# Altium footprint library FullyDigital.PcbLib: 50 footprints (part 2 of 4)
Each footprint in its own frame and in the unit in brackets; x right, y up, seen from the top. Pads: shape width x height; smd on the part's side, far side on the other; paste and mask are expansions set on the pad; w line width, h text height; cw(c..) or ccw(c..) is an arc to the next point about the centre after c.
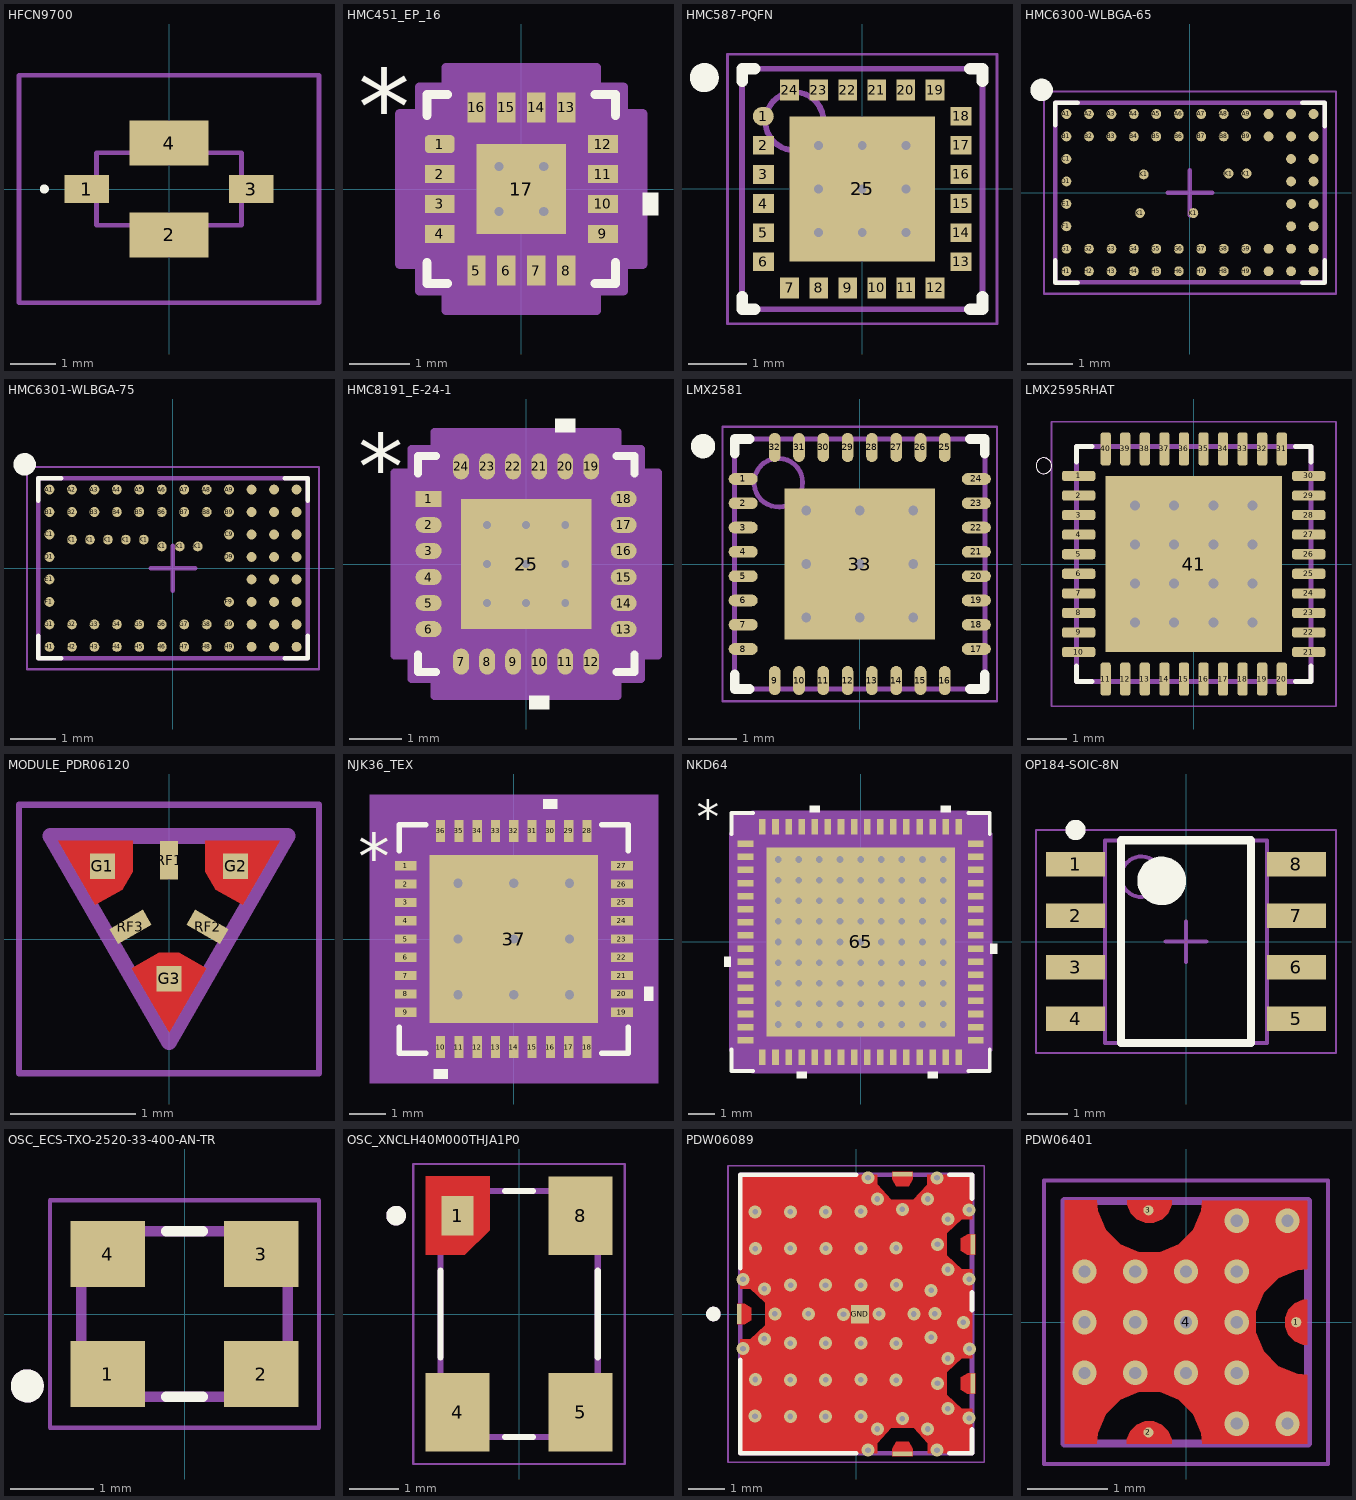
[diagram p1: the footprints below, top view; thin cyan lines are the x and y axes]

## HFCN9700 [mm] "HFCN9700 4PIN"
height 0.95
pads (4):
  rect 0.99x0.61 smd: 1(-1.815,0) 3(1.815,0)
  rect 1.75x0.99 smd: 2(0,-1.015) 4(0,1.015)
Top Overlay:
  lines w0.1: -2.8,0 ccw(c-2.75,0) -2.7,0 ccw(c-2.75,0) -2.8,0
Mechanical 13:
  lines w0.1: -1.6,-0.8 1.6,-0.8 1.6,0.8 -1.6,0.8 -1.6,-0.8
Mechanical 15:
  lines w0.1: -3.31,-2.51 3.31,-2.51 3.31,2.51 -3.31,2.51 -3.31,-2.51
3D body "HFCN-9700+.stp": height 1.14, standoff 0, extent -2.249,-1.411 2.249,1.411

## HMC451_EP_16 [mm] "Gaas PHEMT MMIC MEDIUM  POWER AMPLIFIER, 5 - 20 GHz"
pads (17):
  rrect50% 0.5x0.305 smd mask+0.051: 1(-1.362,0.75)
  rect 0.5x0.305 smd mask+0.051: 2(-1.362,0.25) 3(-1.362,-0.25) 4(-1.362,-0.75) 9(1.362,-0.75) 10(1.362,-0.25) 11(1.362,0.25) 12(1.362,0.75)
  rect 0.305x0.5 smd mask+0.051: 5(-0.75,-1.362) 6(-0.25,-1.362) 7(0.25,-1.362) 8(0.75,-1.362) 13(0.75,1.362) 14(0.25,1.362) 15(-0.25,1.362) 16(-0.75,1.362)
  rect 1.5x1.5 smd paste-0.737 mask+0.051: 17(0,0)
via 0.375,0.375 diameter 0.356 hole 0.152
via -0.375,0.375 diameter 0.356 hole 0.152
via -0.375,-0.375 diameter 0.356 hole 0.152
via 0.375,-0.375 diameter 0.356 hole 0.152
Top Overlay:
  region: 2.03,-0.059 2.284,-0.059 2.284,-0.44 2.03,-0.44
  lines w0.152: -1.577,-1.233 -1.577,-1.577 -1.233,-1.577 ; -1.577,1.233 -1.577,1.577 -1.233,1.577 ; 1.233,-1.577 1.577,-1.577 1.577,-1.233 ; 1.233,1.577 1.577,1.577 1.577,1.233
  text "*" at -2.729,0.746 h1.27
Top Paste:
  region: 0.75,0.75 -0.75,0.75 -0.75,-0.75 0.75,-0.75
Mechanical 13:
  lines w0.025: -1.45,0.18 -0.18,1.45 ; -1.45,-1.45 1.45,-1.45 1.45,1.45 -1.45,1.45 -1.45,-1.45 ; -1.45,-0.9 -1.45,-0.6 -1.45,-0.9 ; -1.45,-0.4 -1.45,-0.1 -1.45,-0.4 ; -1.45,0.1 -1.45,0.4 -1.45,0.1 ; -1.45,0.6 -1.45,0.9 -1.45,0.6 ; -0.9,-1.45 -0.6,-1.45 -0.9,-1.45 ; -0.9,1.45 -0.6,1.45 -0.9,1.45 ; -0.4,-1.45 -0.1,-1.45 -0.4,-1.45 ; -0.4,1.45 -0.1,1.45 -0.4,1.45 ; 0.1,-1.45 0.4,-1.45 0.1,-1.45 ; 0.1,1.45 0.4,1.45 0.1,1.45 ; 0.6,-1.45 0.9,-1.45 0.6,-1.45 ; 0.6,1.45 0.9,1.45 0.6,1.45 ; 1.45,-0.9 1.45,-0.6 1.45,-0.9 ; 1.45,-0.4 1.45,-0.1 1.45,-0.4 ; 1.45,0.1 1.45,0.4 1.45,0.1 ; 1.45,0.6 1.45,0.9 1.45,0.6
  text "*" at -1.259,-0.328 h1.27
Mechanical 15:
  region: -1.258,-1.704 -1.704,-1.704 -1.704,-1.258 -2.03,-1.258 -2.03,1.258 -1.704,1.258 -1.704,1.704 -1.258,1.704 -1.258,2.03 1.258,2.03 1.258,1.704 1.704,1.704 1.704,1.258 2.03,1.258 2.03,-1.258 1.704,-1.258 1.704,-1.704 1.258,-1.704 1.258,-2.03 -1.258,-2.03
  lines w0.152: -2.03,-1.258 -1.704,-1.258 -1.704,-1.704 -1.258,-1.704 -1.258,-2.03 1.258,-2.03 1.258,-1.704 1.704,-1.704 1.704,-1.258 2.03,-1.258 2.03,1.258 1.704,1.258 1.704,1.704 1.258,1.704 1.258,2.03 -1.258,2.03 -1.258,1.704 -1.704,1.704 -1.704,1.258 -2.03,1.258 -2.03,-1.258
3D body: height 0.25, standoff 0, extent 0,0 0.254,0.254

## HMC587-PQFN [mm] "PQFN, 24-Leads, Body 4.00x4.00mm, Pitch 0.50mm, Thermal Pad 2.50x2.50mm, IPC Medium Density"
height 1.2
pads (25):
  oval 0.36x0.32 smd mask+0.013: 1(-1.7,1.25)
  rect 0.36x0.32 smd mask+0.013: 2(-1.7,0.75) 3(-1.7,0.25) 4(-1.7,-0.25) 5(-1.7,-0.75) 6(-1.7,-1.25) 13(1.7,-1.25) 14(1.7,-0.75) 15(1.7,-0.25) 16(1.7,0.25) 17(1.7,0.75) 18(1.7,1.25)
  rect 0.32x0.36 smd mask+0.013: 7(-1.25,-1.7) 8(-0.75,-1.7) 9(-0.25,-1.7) 10(0.25,-1.7) 11(0.75,-1.7) 12(1.25,-1.7) 19(1.25,1.7) 20(0.75,1.7) 21(0.25,1.7) 22(-0.25,1.7) 23(-0.75,1.7) 24(-1.25,1.7)
  rect 2.5x2.5 smd mask+0.025: 25(0,0)
via -0.75,-0.75 diameter 0.305 hole 0.152
via 0,-0.75 diameter 0.305 hole 0.152
via 0.75,-0.75 diameter 0.305 hole 0.152
via 0.75,0.75 diameter 0.305 hole 0.152
via 0,0.75 diameter 0.305 hole 0.152
via -0.75,0.75 diameter 0.305 hole 0.152
via -0.75,0 diameter 0.305 hole 0.152
via 0.75,0 diameter 0.305 hole 0.152
via 0,0 diameter 0.305 hole 0.152
Top Overlay:
  circle w0.25: c-2.715,1.915 r0.125
  lines w0.2: -2.065,-1.85 -2.065,-2.065 -1.85,-2.065 ; -2.065,1.85 -2.065,2.065 -1.85,2.065 ; 1.85,-2.065 2.065,-2.065 2.065,-1.85 ; 1.85,2.065 2.065,2.065 2.065,1.85
Mechanical 13:
  circle w0.1: c-1.165,1.165 r0.5
  lines w0.1: -2.065,-2.065 -2.065,2.065 2.065,2.065 2.065,-2.065 -2.065,-2.065
Mechanical 15:
  lines w0.05: -2.315,-2.315 -2.315,2.315 2.315,2.315 2.315,-2.315 -2.315,-2.315
  lines w0.1: -0.5,0 0.5,0 ; 0,-0.5 0,0.5
3D body: height 1.2, standoff 0, extent -2.065,-2.065 2.065,2.065

## HMC6300-WLBGA-65 [mm] "BGA, 65-Leads, Body 6.00x4.00mmx0.82mm, Pitch 0.50mm"
height 0.82
pads (65):
  round 0.22 smd mask+0.051: A1(-2.75,1.75) A2(-2.25,1.75) A3(-1.75,1.75) A4(-1.25,1.75) A5(-0.75,1.75) A6(-0.25,1.75) A7(0.25,1.75) A8(0.75,1.75) A9(1.25,1.75) A10(1.75,1.75) A11(2.25,1.75) A12(2.75,1.75) B1(-2.75,1.25) B2(-2.25,1.25) B3(-1.75,1.25) B4(-1.25,1.25) B5(-0.75,1.25) B6(-0.25,1.25) B7(0.25,1.25) B8(0.75,1.25) B9(1.25,1.25) B10(1.75,1.25) B11(2.25,1.25) B12(2.75,1.25) C1(-2.75,0.75) C11(2.25,0.75) C12(2.75,0.75) D1(-2.75,0.25) D11(2.25,0.25) D12(2.75,0.25) E1(-2.75,-0.25) E11(2.25,-0.25) E12(2.75,-0.25) F1(-2.75,-0.75) F11(2.25,-0.75) F12(2.75,-0.75) G1(-2.75,-1.25) G2(-2.25,-1.25) G3(-1.75,-1.25) G4(-1.25,-1.25) G5(-0.75,-1.25) G6(-0.25,-1.25) G7(0.25,-1.25) G8(0.75,-1.25) G9(1.25,-1.25) G10(1.75,-1.25) G11(2.25,-1.25) G12(2.75,-1.25) H1(-2.75,-1.75) H2(-2.25,-1.75) H3(-1.75,-1.75) H4(-1.25,-1.75) H5(-0.75,-1.75) H6(-0.25,-1.75) H7(0.25,-1.75) H8(0.75,-1.75) H9(1.25,-1.75) H10(1.75,-1.75) H11(2.25,-1.75) H12(2.75,-1.75) K1(-1.115,-0.455) K1(-1.03,0.406) K1(0.075,-0.455) K1(0.858,0.425) K1(1.258,0.425)
Top Overlay:
  circle w0.25: c-3.302,2.286 r0.125
  lines w0.1: -2.997,-1.504 -2.997,-2.001 -2.497,-2.001 ; -2.997,1.499 -2.997,1.995 -2.497,1.995 ; 2.497,-2.001 2.997,-2.001 2.997,-1.504 ; 2.497,1.995 2.997,1.995 ; 2.997,1.479 2.997,1.976
Mechanical 13:
  lines w0.1: -3,-2 -3,2 3,2 3,-2 -3,-2
Mechanical 15:
  lines w0.05: -3.25,-2.25 -3.25,2.25 3.25,2.25 3.25,-2.25 -3.25,-2.25
  lines w0.1: -0.5,0 0.5,0 ; 0,-0.5 0,0.5
3D body: height 0.82, standoff 0.28, extent -3,-2 3,2

## HMC6301-WLBGA-75 [mm] "BGA, 75-Leads, Body 6.00x4.00mmx0.82mm, Pitch 0.50mm"
height 0.82
pads (75):
  round 0.22 smd mask+0.051: A1(-2.75,1.75) A2(-2.25,1.75) A3(-1.75,1.75) A4(-1.25,1.75) A5(-0.75,1.75) A6(-0.25,1.75) A7(0.25,1.75) A8(0.75,1.75) A9(1.25,1.75) A10(1.75,1.75) A11(2.25,1.75) A12(2.75,1.75) B1(-2.75,1.25) B2(-2.25,1.25) B3(-1.75,1.25) B4(-1.25,1.25) B5(-0.75,1.25) B6(-0.25,1.25) B7(0.25,1.25) B8(0.75,1.25) B9(1.25,1.25) B10(1.75,1.25) B11(2.25,1.25) B12(2.75,1.25) C1(-2.75,0.75) C9(1.25,0.75) C10(1.75,0.75) C11(2.25,0.75) C12(2.75,0.75) D1(-2.75,0.25) D9(1.25,0.25) D10(1.75,0.25) D11(2.25,0.25) D12(2.75,0.25) E1(-2.75,-0.25) E10(1.75,-0.25) E11(2.25,-0.25) E12(2.75,-0.25) F1(-2.75,-0.75) F9(1.25,-0.75) F10(1.75,-0.75) F11(2.25,-0.75) F12(2.75,-0.75) G1(-2.75,-1.25) G2(-2.25,-1.25) G3(-1.75,-1.25) G4(-1.25,-1.25) G5(-0.75,-1.25) G6(-0.25,-1.25) G7(0.25,-1.25) G8(0.75,-1.25) G9(1.25,-1.25) G10(1.75,-1.25) G11(2.25,-1.25) G12(2.75,-1.25) H1(-2.75,-1.75) H2(-2.25,-1.75) H3(-1.75,-1.75) H4(-1.25,-1.75) H5(-0.75,-1.75) H6(-0.25,-1.75) H7(0.25,-1.75) H8(0.75,-1.75) H9(1.25,-1.75) H10(1.75,-1.75) H11(2.25,-1.75) H12(2.75,-1.75) K1(-2.25,0.635) K1(-1.85,0.635) K1(-1.45,0.635) K1(-1.05,0.635) K1(-0.65,0.635) K1(-0.25,0.485) K1(0.15,0.485) K1(0.55,0.485)
Top Overlay:
  circle w0.25: c-3.302,2.311 r0.125
  lines w0.1: -2.997,-1.499 -2.997,-2.007 -2.489,-2.007 ; -2.997,1.499 -2.997,2.007 -2.489,2.007 ; 2.489,-2.007 2.997,-2.007 2.997,-1.499 ; 2.489,2.007 2.997,2.007 2.997,1.499
Mechanical 13:
  lines w0.1: -3,-2 -3,2 3,2 3,-2 -3,-2
Mechanical 15:
  lines w0.05: -3.25,-2.25 -3.25,2.25 3.25,2.25 3.25,-2.25 -3.25,-2.25
  lines w0.1: -0.5,0 0.5,0 ; 0,-0.5 0,0.5
3D body: height 0.82, standoff 0.22, extent -3,-2 3,2

## HMC8191_E-24-1 [mm] "HMC8191_E-24-1"
height 1
pads (25):
  rect 0.5x0.305 smd mask+0.025: 1(-1.872,1.25)
  oval 0.5x0.305 smd mask+0.025: 2(-1.872,0.75) 3(-1.872,0.25) 4(-1.872,-0.25) 5(-1.872,-0.75) 6(-1.872,-1.25) 13(1.872,-1.25) 14(1.872,-0.75) 15(1.872,-0.25) 16(1.872,0.25) 17(1.872,0.75) 18(1.872,1.25)
  oval 0.305x0.5 smd mask+0.025: 7(-1.25,-1.872) 8(-0.75,-1.872) 9(-0.25,-1.872) 10(0.25,-1.872) 11(0.75,-1.872) 12(1.25,-1.872) 19(1.25,1.872) 20(0.75,1.872) 21(0.25,1.872) 22(-0.25,1.872) 23(-0.75,1.872) 24(-1.25,1.872)
  rect 2.5x2.5 smd paste-1.237 mask+0.025: 25(0,0)
via 0.75,0 diameter 0.305 hole 0.152
via 0.75,-0.75 diameter 0.305 hole 0.152
via 0,-0.75 diameter 0.305 hole 0.152
via -0.75,-0.75 diameter 0.305 hole 0.152
via -0.75,0 diameter 0.305 hole 0.152
via -0.75,0.75 diameter 0.305 hole 0.152
via 0,0.75 diameter 0.305 hole 0.152
via 0.75,0.75 diameter 0.305 hole 0.152
via 0,0 diameter 0.305 hole 0.152
Top Overlay:
  region: 0.44,-2.53 0.059,-2.53 0.059,-2.784 0.44,-2.784
  region: 0.941,2.53 0.56,2.53 0.56,2.784 0.941,2.784
  lines w0.152: -2.077,-1.735 -2.077,-2.077 -1.735,-2.077 ; -2.077,1.735 -2.077,2.077 -1.735,2.077 ; 1.735,-2.077 2.077,-2.077 2.077,-1.735 ; 1.735,2.077 2.077,2.077 2.077,1.735
  text "*" at -3.229,1.246 h1.27
Top Paste:
  region: 1.25,1.25 -1.25,1.25 -1.25,-1.25 1.25,-1.25
Mechanical 13:
  lines w0.025: -1.95,0.68 -0.68,1.95 ; -1.95,-1.95 1.95,-1.95 1.95,1.95 -1.95,1.95 -1.95,-1.95 ; -1.95,-1.4 -1.95,-1.1 -1.95,-1.4 ; -1.95,-0.9 -1.95,-0.6 -1.95,-0.9 ; -1.95,-0.4 -1.95,-0.1 -1.95,-0.4 ; -1.95,0.1 -1.95,0.4 -1.95,0.1 ; -1.95,0.6 -1.95,0.9 -1.95,0.6 ; -1.95,1.1 -1.95,1.4 -1.95,1.1 ; -1.4,-1.95 -1.1,-1.95 -1.4,-1.95 ; -1.4,1.95 -1.1,1.95 -1.4,1.95 ; -0.9,-1.95 -0.6,-1.95 -0.9,-1.95 ; -0.9,1.95 -0.6,1.95 -0.9,1.95 ; -0.4,-1.95 -0.1,-1.95 -0.4,-1.95 ; -0.4,1.95 -0.1,1.95 -0.4,1.95 ; 0.1,-1.95 0.4,-1.95 0.1,-1.95 ; 0.1,1.95 0.4,1.95 0.1,1.95 ; 0.6,-1.95 0.9,-1.95 0.6,-1.95 ; 0.6,1.95 0.9,1.95 0.6,1.95 ; 1.1,-1.95 1.4,-1.95 1.1,-1.95 ; 1.1,1.95 1.4,1.95 1.1,1.95 ; 1.95,-1.4 1.95,-1.1 1.95,-1.4 ; 1.95,-0.9 1.95,-0.6 1.95,-0.9 ; 1.95,-0.4 1.95,-0.1 1.95,-0.4 ; 1.95,0.1 1.95,0.4 1.95,0.1 ; 1.95,0.6 1.95,0.9 1.95,0.6 ; 1.95,1.1 1.95,1.4 1.95,1.1
  text "*" at -1.759,0.172 h1.27
Mechanical 15:
  region: -1.758,-2.204 -2.204,-2.204 -2.204,-1.758 -2.53,-1.758 -2.53,1.758 -2.204,1.758 -2.204,2.204 -1.758,2.204 -1.758,2.53 1.758,2.53 1.758,2.204 2.204,2.204 2.204,1.758 2.53,1.758 2.53,-1.758 2.204,-1.758 2.204,-2.204 1.758,-2.204 1.758,-2.53 -1.758,-2.53
  lines w0.152: -2.53,-1.758 -2.204,-1.758 -2.204,-2.204 -1.758,-2.204 -1.758,-2.53 1.758,-2.53 1.758,-2.204 2.204,-2.204 2.204,-1.758 2.53,-1.758 2.53,1.758 2.204,1.758 2.204,2.204 1.758,2.204 1.758,2.53 -1.758,2.53 -1.758,2.204 -2.204,2.204 -2.204,1.758 -2.53,1.758 -2.53,-1.758
3D body: height 0.25, standoff 0, extent 0,0 0.254,0.254

## LMX2581 [mm] "PQFN, 32-Leads, Body 5.00x5.00mm, Pitch 0.50mm, Thermal Pad 3.10x3.10mm, IPC Medium Density"
height 0.8
pads (33):
  oval 0.6x0.24 smd: 1(-2.4,1.75) 2(-2.4,1.25) 3(-2.4,0.75) 4(-2.4,0.25) 5(-2.4,-0.25) 6(-2.4,-0.75) 7(-2.4,-1.25) 8(-2.4,-1.75) 17(2.4,-1.75) 18(2.4,-1.25) 19(2.4,-0.75) 20(2.4,-0.25) 21(2.4,0.25) 22(2.4,0.75) 23(2.4,1.25) 24(2.4,1.75)
  oval 0.24x0.6 smd: 9(-1.75,-2.4) 10(-1.25,-2.4) 11(-0.75,-2.4) 12(-0.25,-2.4) 13(0.25,-2.4) 14(0.75,-2.4) 15(1.25,-2.4) 16(1.75,-2.4) 25(1.75,2.4) 26(1.25,2.4) 27(0.75,2.4) 28(0.25,2.4) 29(-0.25,2.4) 30(-0.75,2.4) 31(-1.25,2.4) 32(-1.75,2.4)
  rect 3.1x3.1 smd: 33(0,0)
via 1.1,-1.1 diameter 0.5 hole 0.2
via 0,-1.1 diameter 0.5 hole 0.2
via -1.1,-1.1 diameter 0.5 hole 0.2
via 1.1,0 diameter 0.5 hole 0.2
via 0,0 diameter 0.5 hole 0.2
via -1.1,0 diameter 0.5 hole 0.2
via 1.1,1.1 diameter 0.5 hole 0.2
via 0,1.1 diameter 0.5 hole 0.2
via -1.1,1.1 diameter 0.5 hole 0.2
Top Overlay:
  circle w0.25: c-3.225,2.425 r0.125
  lines w0.2: -2.575,-2.27 -2.575,-2.575 -2.27,-2.575 ; -2.575,2.27 -2.575,2.575 -2.27,2.575 ; 2.27,-2.575 2.575,-2.575 2.575,-2.27 ; 2.27,2.575 2.575,2.575 2.575,2.27
Mechanical 13:
  circle w0.1: c-1.675,1.675 r0.5
  lines w0.1: -2.575,-2.575 2.575,-2.575 2.575,2.575 -2.575,2.575 -2.575,-2.575
Mechanical 15:
  lines w0.05: -2.825,-2.825 2.825,-2.825 2.825,2.825 -2.825,2.825 -2.825,-2.825
  lines w0.1: -0.5,0 0.5,0 ; 0,-0.5 0,0.5
3D body: height 0.8, standoff 0.05, extent -2.575,-2.575 2.575,2.575

## LMX2595RHAT [mm] "LMX2595 RF Synthesizer"
pads (41):
  rrect50% 0.85x0.26 smd mask+0.051: 1(-2.94,2.25) 2(-2.94,1.75) 3(-2.94,1.25) 4(-2.94,0.75) 5(-2.94,0.25) 6(-2.94,-0.25) 7(-2.94,-0.75) 8(-2.94,-1.25) 9(-2.94,-1.75) 10(-2.94,-2.25) 21(2.94,-2.25) 22(2.94,-1.75) 23(2.94,-1.25) 24(2.94,-0.75) 25(2.94,-0.25) 26(2.94,0.25) 27(2.94,0.75) 28(2.94,1.25) 29(2.94,1.75) 30(2.94,2.25)
  rrect50% 0.26x0.85 smd mask+0.051: 11(-2.25,-2.94) 12(-1.75,-2.94) 13(-1.25,-2.94) 14(-0.75,-2.94) 15(-0.25,-2.94) 16(0.25,-2.94) 17(0.75,-2.94) 18(1.25,-2.94) 19(1.75,-2.94) 20(2.25,-2.94) 31(2.25,2.94) 32(1.75,2.94) 33(1.25,2.94) 34(0.75,2.94) 35(0.25,2.94) 36(-0.25,2.94) 37(-0.75,2.94) 38(-1.25,2.94) 39(-1.75,2.94) 40(-2.25,2.94)
  rect 4.5x4.5 smd mask+0.051: 41(0,0)
via -0.5,0.5 diameter 0.559 hole 0.254
via -0.5,-0.5 diameter 0.559 hole 0.254
via 0.5,-0.5 diameter 0.559 hole 0.254
via 0.5,0.5 diameter 0.559 hole 0.254
via -1.5,-1.5 diameter 0.559 hole 0.254
via 0.5,-1.5 diameter 0.559 hole 0.254
via 1.5,-1.5 diameter 0.559 hole 0.254
via -0.5,-1.5 diameter 0.559 hole 0.254
via -1.5,-0.5 diameter 0.559 hole 0.254
via -1.5,1.5 diameter 0.559 hole 0.254
via -1.5,0.5 diameter 0.559 hole 0.254
via -0.5,1.5 diameter 0.559 hole 0.254
via 0.5,1.5 diameter 0.559 hole 0.254
via 1.5,1.5 diameter 0.559 hole 0.254
via 1.5,0.5 diameter 0.559 hole 0.254
via 1.5,-0.5 diameter 0.559 hole 0.254
Top Overlay:
  circle w0: c-3.83,2.51 r0.2
  lines w0.127: -3,-2.6 -3,-3 -2.6,-3 ; -3,2.6 -3,3 -2.6,3 ; 2.6,-3 3,-3 3,-2.6 ; 2.6,3 3,3 3,2.6
Top Paste:
  region: -1.423,1.42 1.42,1.42 1.42,-1.423 -1.423,-1.423
Mechanical 4:
  circle w0: c-3.83,2.51 r0.2
  circle w0: c-3.83,2.51 r0.2
  lines w0.127: -3,-3 3,-3 ; -3,-3 -3,3 ; -3,-3 3,-3 ; -3,-3 -3,3 ; -3,3 3,3 ; -3,3 3,3 ; 3,-3 3,3 ; 3,-3 3,3
Mechanical 16:
  lines w0.05: -3.635,-3.635 3.635,-3.635 3.635,3.635 -3.635,3.635 -3.635,-3.635

## MODULE_PDR06120 [mil] "RF Power Divider 0Hz ~ 40GHz 20dB Return Loss Module"
pads (6):
  rect 8x8 smd paste-39.37 mask+0: G1(-21,23) G2(21,23) G3(0,-12.5)
  rect 5.6x12.2 smd mask+0.5: RF1(0,24.9)
  rect 5.6x12.2 smd rot 60 mask+0.5: RF2(12.18,3.8)
  rect 5.6x12.2 smd rot 120 mask+0.5: RF3(-12.18,3.8)
Top Layer:
  region: -11.5,21.3 -14.8,15.58 -23.2,10.73 -34.9,31 -11.5,31
  region: 11.69,-9.21 0,-29.47 -11.69,-9.21 -3.25,-4.36 3.25,-4.36
  region: 23.2,10.73 14.8,15.58 11.5,21.3 11.5,31 34.9,31
Top Paste:
  region: -11.5,21.3 -14.8,15.58 -23.2,10.73 -34.9,31 -11.5,31
  region: 11.69,-9.21 0,-29.47 -11.69,-9.21 -3.25,-4.36 3.25,-4.36
  region: 23.2,10.73 14.8,15.58 11.5,21.3 11.5,31 34.9,31
Top Solder:
  region: -7.56,20.19 -11.53,13.37 -24.34,5.93 -41.2,34.94 -7.56,34.94
  region: 16.73,-7.77 0,-36.9 -16.73,-7.77 -3.94,-0.42 3.94,-0.42
  region: 24.34,5.93 11.53,13.37 7.56,20.19 7.56,34.94 41.2,34.94
Mechanical 13:
  lines w5: -37.5,32.5 37.5,32.5 0,-32.5 -37.5,32.5
Mechanical 15:
  lines w1.97: -47.34,-42.34 -47.34,42.34 47.34,42.34 47.34,-42.34 -47.34,-42.34

## NJK36_TEX [mm] "LMH6882_WQFN"
height 0.8
pads (37):
  rect 0.6x0.25 smd paste+0 mask+0.051: 1(-2.952,2) 2(-2.952,1.5) 3(-2.952,1) 4(-2.952,0.5) 5(-2.952,0) 6(-2.952,-0.5) 7(-2.952,-1) 8(-2.952,-1.5) 9(-2.952,-2) 19(2.952,-2) 20(2.952,-1.5) 21(2.952,-1) 22(2.952,-0.5) 23(2.952,0) 24(2.952,0.5) 25(2.952,1) 26(2.952,1.5) 27(2.952,2)
  rect 0.25x0.6 smd paste+0 mask+0.051: 10(-2,-2.952) 11(-1.5,-2.952) 12(-1,-2.952) 13(-0.5,-2.952) 14(0,-2.952) 15(0.5,-2.952) 16(1,-2.952) 17(1.5,-2.952) 18(2,-2.952) 28(2,2.952) 29(1.5,2.952) 30(1,2.952) 31(0.5,2.952) 32(0,2.952) 33(-0.5,2.952) 34(-1,2.952) 35(-1.5,2.952) 36(-2,2.952)
  rect 4.6x4.6 smd paste-2.287 mask+0.051: 37(0,0)
via 0,0 diameter 0.559 hole 0.254
via 1.524,0 diameter 0.559 hole 0.254
via -1.524,0 diameter 0.559 hole 0.254
via -1.524,1.524 diameter 0.559 hole 0.254
via 0,1.524 diameter 0.559 hole 0.254
via 1.524,1.524 diameter 0.559 hole 0.254
via 1.524,-1.524 diameter 0.559 hole 0.254
via 0,-1.524 diameter 0.559 hole 0.254
via -1.524,-1.524 diameter 0.559 hole 0.254
Top Overlay:
  region: -1.81,-3.559 -2.191,-3.559 -2.191,-3.813 -1.81,-3.813
  region: 3.559,-1.309 3.813,-1.309 3.813,-1.69 3.559,-1.69
  region: 1.191,3.559 0.81,3.559 0.81,3.813 1.191,3.813
  lines w0.152: -3.127,-2.407 -3.127,-3.127 -2.407,-3.127 ; -3.127,2.407 -3.127,3.127 -2.407,3.127 ; 2.407,-3.127 3.127,-3.127 3.127,-2.407 ; 2.407,3.127 3.127,3.127 3.127,2.407
  text "*" at -4.257,1.615 h1.27
Top Paste:
  region: -0.867,2.2 -2.2,2.2 -2.2,0.867 -0.867,0.867
  region: -0.867,0.667 -2.2,0.667 -2.2,-0.667 -0.867,-0.667
  region: -0.867,-0.867 -2.2,-0.867 -2.2,-2.2 -0.867,-2.2
  region: 0.667,2.2 -0.667,2.2 -0.667,0.867 0.667,0.867
  region: 0.667,0.667 -0.667,0.667 -0.667,-0.667 0.667,-0.667
  region: 0.667,-0.867 -0.667,-0.867 -0.667,-2.2 0.667,-2.2
  region: 2.2,2.2 0.867,2.2 0.867,0.867 2.2,0.867
  region: 2.2,0.667 0.867,0.667 0.867,-0.667 2.2,-0.667
  region: 2.2,-0.867 0.867,-0.867 0.867,-2.2 2.2,-2.2
Mechanical 5:
  region: 3.94,-3.94 -3.94,-3.94 -3.94,3.94 3.94,3.94
Mechanical 13:
  lines w0.025: -3,1.73 -1.73,3 ; -3,-3 3,-3 3,3 -3,3 -3,-3 ; -3,-2.125 -3,-1.875 -3,-2.125 ; -3,-1.625 -3,-1.375 -3,-1.625 ; -3,-1.125 -3,-0.875 -3,-1.125 ; -3,-0.625 -3,-0.375 -3,-0.625 ; -3,-0.125 -3,0.125 -3,-0.125 ; -3,0.375 -3,0.625 -3,0.375 ; -3,0.875 -3,1.125 -3,0.875 ; -3,1.375 -3,1.625 -3,1.375 ; -3,1.875 -3,2.125 -3,1.875 ; -2.125,-3 -1.875,-3 -2.125,-3 ; -2.125,3 -1.875,3 -2.125,3 ; -1.625,-3 -1.375,-3 -1.625,-3 ; -1.625,3 -1.375,3 -1.625,3 ; -1.125,-3 -0.875,-3 -1.125,-3 ; -1.125,3 -0.875,3 -1.125,3 ; -0.625,-3 -0.375,-3 -0.625,-3 ; -0.625,3 -0.375,3 -0.625,3 ; -0.125,-3 0.125,-3 -0.125,-3 ; -0.125,3 0.125,3 -0.125,3 ; 0.375,-3 0.625,-3 0.375,-3 ; 0.375,3 0.625,3 0.375,3 ; 0.875,-3 1.125,-3 0.875,-3 ; 0.875,3 1.125,3 0.875,3 ; 1.375,-3 1.625,-3 1.375,-3 ; 1.375,3 1.625,3 1.375,3 ; 1.875,-3 2.125,-3 1.875,-3 ; 1.875,3 2.125,3 1.875,3 ; 3,-2.125 3,-1.875 3,-2.125 ; 3,-1.625 3,-1.375 3,-1.625 ; 3,-1.125 3,-0.875 3,-1.125 ; 3,-0.625 3,-0.375 3,-0.625 ; 3,-0.125 3,0.125 3,-0.125 ; 3,0.375 3,0.625 3,0.375 ; 3,0.875 3,1.125 3,0.875 ; 3,1.375 3,1.625 3,1.375 ; 3,1.875 3,2.125 3,1.875
  text "*" at -2.917,1.615 h1.27
Mechanical 15:
  region: -2.328,-3.254 -3.254,-3.254 -3.254,-2.328 -3.559,-2.328 -3.559,2.328 -3.254,2.328 -3.254,3.254 -2.328,3.254 -2.328,3.559 2.328,3.559 2.328,3.254 3.254,3.254 3.254,2.328 3.559,2.328 3.559,-2.328 3.254,-2.328 3.254,-3.254 2.328,-3.254 2.328,-3.559 -2.328,-3.559
  lines w0.152: -3.559,-2.328 -3.254,-2.328 -3.254,-3.254 -2.328,-3.254 -2.328,-3.559 2.328,-3.559 2.328,-3.254 3.254,-3.254 3.254,-2.328 3.559,-2.328 3.559,2.328 3.254,2.328 3.254,3.254 2.328,3.254 2.328,3.559 -2.328,3.559 -2.328,3.254 -3.254,3.254 -3.254,2.328 -3.559,2.328 -3.559,-2.328
3D body: height 0.25, standoff 0, extent 0,0 0.254,0.254

## NKD64 [mm]
pads (65):
  rect 0.6x0.25 smd paste-0.125 mask+0: 1(-4.4,3.75) 2(-4.4,3.25) 3(-4.4,2.75) 4(-4.4,2.25) 5(-4.4,1.75) 6(-4.4,1.25) 7(-4.4,0.75) 8(-4.4,0.25) 9(-4.4,-0.25) 10(-4.4,-0.75) 11(-4.4,-1.25) 12(-4.4,-1.75) 13(-4.4,-2.25) 14(-4.4,-2.75) 15(-4.4,-3.25) 16(-4.4,-3.75) 33(4.4,-3.75) 34(4.4,-3.25) 35(4.4,-2.75) 36(4.4,-2.25) 37(4.4,-1.75) 38(4.4,-1.25) 39(4.4,-0.75) 40(4.4,-0.25) 41(4.4,0.25) 42(4.4,0.75) 43(4.4,1.25) 44(4.4,1.75) 45(4.4,2.25) 46(4.4,2.75) 47(4.4,3.25) 48(4.4,3.75)
  rect 0.25x0.6 smd paste-0.125 mask+0: 17(-3.75,-4.4) 18(-3.25,-4.4) 19(-2.75,-4.4) 20(-2.25,-4.4) 21(-1.75,-4.4) 22(-1.25,-4.4) 23(-0.75,-4.4) 24(-0.25,-4.4) 25(0.25,-4.4) 26(0.75,-4.4) 27(1.25,-4.4) 28(1.75,-4.4) 29(2.25,-4.4) 30(2.75,-4.4) 31(3.25,-4.4) 32(3.75,-4.4) 49(3.75,4.4) 50(3.25,4.4) 51(2.75,4.4) 52(2.25,4.4) 53(1.75,4.4) 54(1.25,4.4) 55(0.75,4.4) 56(0.25,4.4) 57(-0.25,4.4) 58(-0.75,4.4) 59(-1.25,4.4) 60(-1.75,4.4) 61(-2.25,4.4) 62(-2.75,4.4) 63(-3.25,4.4) 64(-3.75,4.4)
  rect 7.2x7.2 smd paste-3.587 mask-3.581: 65(0,0)
via 0,-3.15 diameter 0.508 hole 0.254
via 0.787,-3.15 diameter 0.508 hole 0.254
via 1.575,-3.15 diameter 0.508 hole 0.254
via 2.362,-3.15 diameter 0.508 hole 0.254
via 3.15,-3.15 diameter 0.508 hole 0.254
via -0.787,-3.15 diameter 0.508 hole 0.254
via -1.575,-3.15 diameter 0.508 hole 0.254
via -2.362,-3.15 diameter 0.508 hole 0.254
via -3.15,-3.15 diameter 0.508 hole 0.254
via 0,-2.362 diameter 0.508 hole 0.254
via 0.787,-2.362 diameter 0.508 hole 0.254
via 1.575,-2.362 diameter 0.508 hole 0.254
via 2.362,-2.362 diameter 0.508 hole 0.254
via 3.15,-2.362 diameter 0.508 hole 0.254
via -0.787,-2.362 diameter 0.508 hole 0.254
via -1.575,-2.362 diameter 0.508 hole 0.254
via -2.362,-2.362 diameter 0.508 hole 0.254
via -3.15,-2.362 diameter 0.508 hole 0.254
via 0,-1.575 diameter 0.508 hole 0.254
via 0.787,-1.575 diameter 0.508 hole 0.254
via 1.575,-1.575 diameter 0.508 hole 0.254
via 2.362,-1.575 diameter 0.508 hole 0.254
via 3.15,-1.575 diameter 0.508 hole 0.254
via -0.787,-1.575 diameter 0.508 hole 0.254
via -1.575,-1.575 diameter 0.508 hole 0.254
via -2.362,-1.575 diameter 0.508 hole 0.254
via -3.15,-1.575 diameter 0.508 hole 0.254
via 0,-0.787 diameter 0.508 hole 0.254
via 0.787,-0.787 diameter 0.508 hole 0.254
via 1.575,-0.787 diameter 0.508 hole 0.254
via 2.362,-0.787 diameter 0.508 hole 0.254
via 3.15,-0.787 diameter 0.508 hole 0.254
via -0.787,-0.787 diameter 0.508 hole 0.254
via -1.575,-0.787 diameter 0.508 hole 0.254
via -2.362,-0.787 diameter 0.508 hole 0.254
via -3.15,-0.787 diameter 0.508 hole 0.254
via 0,0 diameter 0.508 hole 0.254
via 0.787,0 diameter 0.508 hole 0.254
via 1.575,0 diameter 0.508 hole 0.254
via 2.362,0 diameter 0.508 hole 0.254
via 3.15,0 diameter 0.508 hole 0.254
via -0.787,0 diameter 0.508 hole 0.254
via -1.575,0 diameter 0.508 hole 0.254
via -2.362,0 diameter 0.508 hole 0.254
via -3.15,0 diameter 0.508 hole 0.254
via 0,0.787 diameter 0.508 hole 0.254
via 0.787,0.787 diameter 0.508 hole 0.254
via 1.575,0.787 diameter 0.508 hole 0.254
via 2.362,0.787 diameter 0.508 hole 0.254
via 3.15,0.787 diameter 0.508 hole 0.254
via -0.787,0.787 diameter 0.508 hole 0.254
via -1.575,0.787 diameter 0.508 hole 0.254
via -2.362,0.787 diameter 0.508 hole 0.254
via -3.15,0.787 diameter 0.508 hole 0.254
via 0,2.362 diameter 0.508 hole 0.254
via 0.787,2.362 diameter 0.508 hole 0.254
via 1.575,2.362 diameter 0.508 hole 0.254
via 2.362,2.362 diameter 0.508 hole 0.254
via 3.15,2.362 diameter 0.508 hole 0.254
via -0.787,2.362 diameter 0.508 hole 0.254
via -1.575,2.362 diameter 0.508 hole 0.254
via -2.362,2.362 diameter 0.508 hole 0.254
via -3.15,2.362 diameter 0.508 hole 0.254
via 0,1.575 diameter 0.508 hole 0.254
via 0.787,1.575 diameter 0.508 hole 0.254
via 1.575,1.575 diameter 0.508 hole 0.254
via 2.362,1.575 diameter 0.508 hole 0.254
via 3.15,1.575 diameter 0.508 hole 0.254
via -0.787,1.575 diameter 0.508 hole 0.254
via -1.575,1.575 diameter 0.508 hole 0.254
via -2.362,1.575 diameter 0.508 hole 0.254
via -3.15,1.575 diameter 0.508 hole 0.254
via -3.15,3.15 diameter 0.508 hole 0.254
via -2.362,3.15 diameter 0.508 hole 0.254
via -1.575,3.15 diameter 0.508 hole 0.254
via -0.787,3.15 diameter 0.508 hole 0.254
via 3.15,3.15 diameter 0.508 hole 0.254
via 2.362,3.15 diameter 0.508 hole 0.254
via 1.575,3.15 diameter 0.508 hole 0.254
via 0.787,3.15 diameter 0.508 hole 0.254
via 0,3.15 diameter 0.508 hole 0.254
Top Overlay:
  region: -1.559,4.954 -1.94,4.954 -1.94,5.208 -1.559,5.208
  region: 3.441,4.954 3.06,4.954 3.06,5.208 3.441,5.208
  region: 4.954,-0.059 5.208,-0.059 5.208,-0.44 4.954,-0.44
  region: 2.94,-4.954 2.559,-4.954 2.559,-5.208 2.94,-5.208
  region: -2.06,-4.954 -2.441,-4.954 -2.441,-5.208 -2.06,-5.208
  region: -4.954,-0.56 -5.208,-0.56 -5.208,-0.941 -4.954,-0.941
  lines w0.152: -4.931,-4.114 -4.931,-4.931 -4.114,-4.931 ; -4.931,4.114 -4.931,4.931 -4.114,4.931 ; 4.114,-4.931 4.931,-4.931 4.931,-4.114 ; 4.114,4.931 4.931,4.931 4.931,4.114
  text "*" at -6.248,4.166 h1.27
Top Paste:
  drawing of 164 lines, arcs and shapes, not listed
Top Solder:
  drawing of 84 lines, arcs and shapes, not listed
Mechanical 13:
  lines w0.025: -4.55,3.28 -3.28,4.55 ; -4.55,-4.55 -4.55,4.55 4.55,4.55 4.55,-4.55 -4.55,-4.55
  text "*" at -4.163,3.365 h1.27
Mechanical 15:
  region: -4.129,-4.804 -4.804,-4.804 -4.804,-4.129 -4.954,-4.129 -4.954,4.129 -4.804,4.129 -4.804,4.804 -4.129,4.804 -4.129,4.954 4.129,4.954 4.129,4.804 4.804,4.804 4.804,4.129 4.954,4.129 4.954,-4.129 4.804,-4.129 4.804,-4.804 4.129,-4.804 4.129,-4.954 -4.129,-4.954
  lines w0.152: -4.954,-4.129 -4.954,4.129 -4.804,4.129 -4.804,4.804 -4.129,4.804 -4.129,4.954 4.129,4.954 4.129,4.804 4.804,4.804 4.804,4.129 4.954,4.129 4.954,-4.129 4.804,-4.129 4.804,-4.804 4.129,-4.804 4.129,-4.954 -4.129,-4.954 -4.129,-4.804 -4.804,-4.804 -4.804,-4.129 -4.954,-4.129
3D body: height 0.25, standoff 0, extent 0,0 0.254,0.254

## OP184-SOIC-8N [mm] "SOIC, 8-Leads, Body 4.90x3.90mm, Pitch 1.27mm, IPC Medium Density"
height 1.75
pads (8):
  rect 1.45x0.6 smd: 1(-2.725,1.905) 2(-2.725,0.635) 3(-2.725,-0.635) 4(-2.725,-1.905) 5(2.725,-1.905) 6(2.725,-0.635) 7(2.725,0.635) 8(2.725,1.905)
Top Overlay:
  circle w0.6: c-0.6,1.5 r0.3
  circle w0.25: c-2.725,2.755 r0.125
  lines w0.2: -1.6,-2.5 1.6,-2.5 1.6,2.5 -1.6,2.5 -1.6,-2.5
Mechanical 13:
  circle w0.1: c-1.1,1.6 r0.5
  lines w0.1: -2,-2.5 2,-2.5 2,2.5 -2,2.5 -2,-2.5
Mechanical 15:
  lines w0.05: -3.7,-2.75 3.7,-2.75 3.7,2.75 -3.7,2.75 -3.7,-2.75
  lines w0.1: -0.5,0 0.5,0 ; 0,-0.5 0,0.5
3D body: height 1.75, standoff 0.1, extent -2,-2.5 2,2.5

## OSC_ECS-TXO-2520-33-400-AN-TR [mm] "ECS-TXO-2520"
height 0.9
pads (4):
  rect 0.9x0.8 smd: 1(-0.925,-0.725) 2(0.925,-0.725) 3(0.925,0.725) 4(-0.925,0.725)
Top Overlay:
  circle w0.2: c-1.9,-0.869 r0.1
  lines w0.127: -0.221,-1 0.221,-1 ; -0.221,1 0.221,1
Mechanical 13:
  circle w0.2: c-1.9,-0.869 r0.1
  lines w0.127: -1.25,-1 -1.25,1 1.25,1 1.25,-1 -1.25,-1
Mechanical 15:
  lines w0.05: -1.625,-1.375 -1.625,1.375 1.625,1.375 1.625,-1.375 -1.625,-1.375

## OSC_XNCLH40M000THJA1P0 [mm] "OSC_XNCLH40M000THJA1P0"
pads (4):
  rect 0.65x0.8 smd: 1(-1.25,2)
  rect 1.3x1.6 smd: 4(-1.25,-2) 5(1.25,-2) 8(1.25,2)
Top Layer:
  region: -1.9,1.2 -1.9,2.8 -0.6,2.8 -0.6,1.7 -1.1,1.2
Top Overlay:
  circle w0.2: c-2.5,2 r0.1
  lines w0.127: -1.6,-0.88 -1.6,0.88 ; -0.28,-2.5 0.28,-2.5 ; -0.28,2.5 0.28,2.5 ; 1.6,-0.88 1.6,0.88
Top Paste:
  region: -1.9,1.2 -1.9,2.8 -0.6,2.8 -0.6,1.7 -1.1,1.2
Top Solder:
  region: -2,1.1 -2,2.9 -0.5,2.9 -0.5,1.6 -1,1.1
Mechanical 13:
  circle w0.2: c-2.5,2 r0.1
  circle w0.2: c-2.5,2 r0.1
  lines w0.127: -1.6,-2.5 1.6,-2.5 ; -1.6,-2.5 -1.6,2.5 ; -1.6,-2.5 1.6,-2.5 ; -1.6,-2.5 -1.6,2.5 ; -1.6,2.5 1.6,2.5 ; -1.6,2.5 1.6,2.5 ; 1.6,-2.5 1.6,2.5 ; 1.6,-2.5 1.6,2.5
Mechanical 15:
  lines w0.05: -2.15,-3.05 -2.15,3.05 2.15,3.05 2.15,-3.05 -2.15,-3.05

## PDW06089 [mm] "6-18GHz 4-way Wilkinson Power Divider"
pads (6):
  rect 0.5x0.5 smd: GND(0.11,-0.01)
  rect 0.122x0.559 smd: IN(-3.2,0) O2(3.2,1.905) O3(3.2,-1.905)
  rect 0.559x0.122 smd: O1(1.27,3.83) O4(1.27,-3.83)
via 0.585,3.15 diameter 0.356 hole 0.152
via 0.128,2.813 diameter 0.356 hole 0.152
via -0.833,2.798 diameter 0.356 hole 0.152
via -1.804,2.798 diameter 0.356 hole 0.152
via -2.764,2.798 diameter 0.356 hole 0.152
via -1.799,1.798 diameter 0.356 hole 0.152
via -0.828,1.798 diameter 0.356 hole 0.152
via 0.133,1.798 diameter 0.356 hole 0.152
via 1.098,1.808 diameter 0.356 hole 0.152
via 2.056,0.646 diameter 0.356 hole 0.152
via 1.104,0.798 diameter 0.356 hole 0.152
via 0.133,0.793 diameter 0.356 hole 0.152
via -0.838,0.793 diameter 0.356 hole 0.152
via -1.794,0.793 diameter 0.356 hole 0.152
via -2.759,1.793 diameter 0.356 hole 0.152
via -3.099,0.948 diameter 0.356 hole 0.152
via -2.226,0.005 diameter 0.356 hole 0.152
via -1.311,0.005 diameter 0.356 hole 0.152
via -0.345,-0.01 diameter 0.356 hole 0.152
via 0.621,0.005 diameter 0.356 hole 0.152
via 1.584,0 diameter 0.356 hole 0.152
via 2.159,0.012 diameter 0.356 hole 0.152
via 2.056,-0.641 diameter 0.356 hole 0.152
via 1.096,-0.806 diameter 0.356 hole 0.152
via 0.133,-0.798 diameter 0.356 hole 0.152
via -0.833,-0.798 diameter 0.356 hole 0.152
via -1.799,-0.798 diameter 0.356 hole 0.152
via -2.514,-0.683 diameter 0.356 hole 0.152
via -3.099,-0.947 diameter 0.356 hole 0.152
via 1.096,-1.811 diameter 0.356 hole 0.152
via 0.133,-1.8 diameter 0.356 hole 0.152
via -0.833,-1.805 diameter 0.356 hole 0.152
via -1.799,-1.805 diameter 0.356 hole 0.152
via -2.759,-1.795 diameter 0.356 hole 0.152
via -2.769,-2.798 diameter 0.356 hole 0.152
via -1.799,-2.808 diameter 0.356 hole 0.152
via -0.838,-2.808 diameter 0.356 hole 0.152
via 0.128,-2.803 diameter 0.356 hole 0.152
via 0.326,-3.732 diameter 0.356 hole 0.152
via 0.585,-3.15 diameter 0.356 hole 0.152
via 1.27,-2.868 diameter 0.356 hole 0.152
via 1.96,-3.15 diameter 0.356 hole 0.152
via 2.216,-3.732 diameter 0.356 hole 0.152
via 3.096,-2.852 diameter 0.356 hole 0.152
via 2.514,-2.591 diameter 0.356 hole 0.152
via 2.23,-1.9 diameter 0.356 hole 0.152
via 2.514,-1.219 diameter 0.356 hole 0.152
via 3.101,-0.957 diameter 0.356 hole 0.152
via 2.936,-0.231 diameter 0.356 hole 0.152
via 3.096,0.958 diameter 0.356 hole 0.152
via 2.514,1.219 diameter 0.356 hole 0.152
via 2.23,1.905 diameter 0.356 hole 0.152
via 1.27,2.868 diameter 0.356 hole 0.152
via 3.096,2.853 diameter 0.356 hole 0.152
via 2.514,2.596 diameter 0.356 hole 0.152
via 1.96,3.15 diameter 0.356 hole 0.152
via 0.326,3.733 diameter 0.356 hole 0.152
via 2.216,3.728 diameter 0.356 hole 0.152
via -2.514,0.688 diameter 0.356 hole 0.152
Top Layer:
  region: -3.175,1.185 -3.175,3.81 0.58,3.81 0.58,3.55 0.965,3.125 1.57,3.125 1.955,3.545 1.955,3.81 3.175,3.81 3.175,2.595 2.9,2.595 2.49,2.215 2.49,1.605 2.9,1.22 3.175,1.22 3.175,-1.215 2.9,-1.215 2.49,-1.6 2.49,-2.21 2.895,-2.59 3.175,-2.59 3.175,-3.81 1.965,-3.81 1.965,-3.545 1.575,-3.12 0.965,-3.12 0.58,-3.54 0.58,-3.81 -3.175,-3.81 -3.175,-0.685 -2.895,-0.685 -2.49,-0.305 -2.49,0.305 -2.895,0.685 -3.175,0.685
  region: 0.991,-3.891 0.991,-3.685 1.095,-3.505 1.445,-3.505 1.549,-3.685 1.549,-3.891
  region: 0.991,3.891 0.991,3.685 1.095,3.505 1.445,3.505 1.549,3.685 1.549,3.765 1.55,3.891
  region: 3.262,2.184 3.055,2.184 2.87,2.08 2.87,1.735 2.87,1.73 3.05,1.626 3.262,1.626
  region: 3.262,-1.626 3.055,-1.626 2.87,-1.73 2.87,-2.08 3.05,-2.184 3.262,-2.184
  region: -3.262,0.279 -3.055,0.279 -2.87,0.175 -2.87,-0.17 -2.87,-0.175 -3.05,-0.279 -3.262,-0.279
Top Overlay:
  circle w0.2: c-3.91,0 r0.1
  lines w0.127: -3.175,-1.25 -3.175,-3.81 0,-3.81 ; -3.175,1.25 -3.175,3.81 0,3.81 ; 2.55,-3.81 3.175,-3.81 3.175,-3.155 ; 2.55,3.81 3.175,3.81 3.175,3.155 ; 3.175,0.1 3.175,0.6
Top Paste:
  region: -3.176,1.185 -3.176,3.81 0.579,3.81 0.579,3.55 0.964,3.125 1.569,3.125 1.954,3.545 1.954,3.81 3.174,3.81 3.174,2.595 2.899,2.595 2.489,2.215 2.489,1.605 2.899,1.22 3.174,1.22 3.174,-1.215 2.899,-1.215 2.489,-1.6 2.489,-2.21 2.894,-2.59 3.174,-2.59 3.174,-3.81 1.964,-3.81 1.964,-3.545 1.574,-3.12 0.964,-3.12 0.579,-3.54 0.579,-3.81 -3.176,-3.81 -3.176,-0.685 -2.896,-0.685 -2.491,-0.305 -2.491,0.305 -2.896,0.685 -3.176,0.685
  region: 3.053,-2.185 3.26,-2.185 3.26,-1.625 3.053,-1.625 2.87,-1.73 2.87,-2.08
  region: 3.053,1.625 3.26,1.625 3.26,2.185 3.053,2.185 2.87,2.08 2.87,1.73
  region: -3.053,0.28 -3.26,0.28 -3.26,-0.28 -3.053,-0.28 -2.87,-0.175 -2.87,0.175
  region: 1.55,3.688 1.55,3.89 0.99,3.89 0.99,3.688 1.095,3.505 1.445,3.505
  region: 0.99,-3.688 0.99,-3.89 1.55,-3.89 1.55,-3.688 1.445,-3.505 1.095,-3.505
Top Solder:
  region: -3.175,1.185 -3.175,3.81 0.58,3.81 0.58,3.55 0.965,3.125 1.57,3.125 1.955,3.545 1.955,3.81 3.175,3.81 3.175,2.595 2.9,2.595 2.49,2.215 2.49,1.605 2.9,1.22 3.175,1.22 3.175,-1.215 2.9,-1.215 2.49,-1.6 2.49,-2.21 2.895,-2.59 3.175,-2.59 3.175,-3.81 1.965,-3.81 1.965,-3.545 1.575,-3.12 0.965,-3.12 0.58,-3.54 0.58,-3.81 -3.175,-3.81 -3.175,-0.685 -2.895,-0.685 -2.49,-0.305 -2.49,0.305 -2.895,0.685 -3.175,0.685
  region: 3.058,1.52 3.365,1.52 3.365,2.285 3.053,2.285 2.77,2.125 2.77,1.695
  region: 3.058,-2.29 3.365,-2.29 3.365,-1.525 3.053,-1.525 2.77,-1.69 2.77,-2.115
  region: -3.053,0.38 -3.36,0.38 -3.36,-0.38 -3.053,-0.38 -2.77,-0.21 -2.77,0.22
  region: 1.65,3.688 1.65,3.995 0.89,3.995 0.89,3.688 1.05,3.405 1.495,3.405
  region: 0.89,-3.688 0.89,-3.995 1.65,-3.995 1.65,-3.688 1.485,-3.405 1.05,-3.405
Mechanical 13:
  circle w0.2: c-3.91,0 r0.1
  circle w0.2: c-3.91,0 r0.1
  lines w0.127: -3.175,-3.81 3.175,-3.81 ; -3.175,-3.81 -3.175,3.81 ; -3.175,-3.81 3.175,-3.81 ; -3.175,-3.81 -3.175,3.81 ; -3.175,3.81 3.175,3.81 ; -3.175,3.81 3.175,3.81 ; 3.175,-3.81 3.175,3.81 ; 3.175,-3.81 3.175,3.81
Mechanical 15:
  lines w0.05: -3.511,-4.06 3.511,-4.06 3.511,4.06 -3.511,4.06 -3.511,-4.06

## PDW06401 [mm] "PDW06401 Wilkinson Power Divider Footprint"
height 0.02
pads (4):
  round 0.127 smd paste-0.127: 1(1.38,-0.001) 2(-0.47,-1.38) 3(-0.47,1.4)
  round 0.22 smd: 4(0,0)
via 0,-0.001 diameter 0.305 hole 0.152
via -0.635,0 diameter 0.305 hole 0.152
via -1.27,-0.001 diameter 0.305 hole 0.152
via -1.27,-0.635 diameter 0.305 hole 0.152
via -0.635,-0.635 diameter 0.305 hole 0.152
via 0,-0.635 diameter 0.305 hole 0.152
via 0.635,-0.635 diameter 0.305 hole 0.152
via 0.635,-1.27 diameter 0.305 hole 0.152
via 1.27,-1.27 diameter 0.305 hole 0.152
via 0.635,0 diameter 0.305 hole 0.152
via 0,0.635 diameter 0.305 hole 0.152
via -0.635,0.635 diameter 0.305 hole 0.152
via -1.27,0.635 diameter 0.305 hole 0.152
via 0.635,0.635 diameter 0.305 hole 0.152
via 0.635,1.27 diameter 0.305 hole 0.152
via 1.27,1.27 diameter 0.305 hole 0.152
Top Layer:
  region: 1.52,-0.281 1.464,-0.281 1.361,-0.238 1.283,-0.16 1.24,-0.057 1.24,0.055 1.283,0.158 1.361,0.236 1.464,0.279 1.52,0.279
  region: -1.52,-1.52 -1.52,1.52 -1.516,1.524 -1.118,1.524 -1.105,1.395 -1.006,1.157 -0.824,0.975 -0.586,0.876 -0.328,0.876 -0.09,0.975 0.092,1.157 0.191,1.395 0.203,1.524 1.52,1.518 1.52,0.66 1.391,0.647 1.153,0.549 0.971,0.367 0.873,0.129 0.873,-0.129 0.971,-0.367 1.153,-0.549 1.391,-0.647 1.52,-0.66 1.52,-1.52 0.203,-1.52 0.19,-1.391 0.092,-1.153 -0.09,-0.971 -0.328,-0.873 -0.586,-0.873 -0.824,-0.971 -1.006,-1.153 -1.104,-1.391 -1.117,-1.52
  region: 1.52,-0.281 1.464,-0.281 1.361,-0.238 1.283,-0.16 1.24,-0.057 1.24,0.055 1.283,0.158 1.361,0.236 1.464,0.279 1.52,0.279
  region: -0.44,1.98
  region: -1.11,1.524
  region: -0.736,1.524 -0.736,1.469 -0.694,1.366 -0.615,1.287 -0.512,1.245 -0.402,1.245 -0.299,1.287 -0.22,1.366 -0.178,1.469 -0.178,1.524
  region: -0.739,-1.52 -0.739,-1.465 -0.697,-1.362 -0.618,-1.283 -0.515,-1.241 -0.405,-1.241 -0.302,-1.283 -0.223,-1.362 -0.181,-1.465 -0.181,-1.52
Top Paste:
  region: -0.739,-1.518 -0.739,-1.462 -0.697,-1.36 -0.618,-1.281 -0.515,-1.239 -0.405,-1.239 -0.302,-1.281 -0.223,-1.36 -0.181,-1.462 -0.181,-1.518
  region: 1.52,-0.28 1.464,-0.28 1.361,-0.237 1.283,-0.159 1.24,-0.056 1.24,0.056 1.283,0.159 1.361,0.237 1.464,0.28 1.52,0.28
  region: -0.739,1.52 -0.739,1.465 -0.697,1.362 -0.618,1.283 -0.515,1.241 -0.405,1.241 -0.302,1.283 -0.223,1.362 -0.181,1.465 -0.181,1.52
Mechanical 13:
  lines w0.1: -1.52,-1.52 -1.52,1.519 1.53,1.519 1.53,-1.52 -1.52,-1.52
Mechanical 15:
  lines w0.05: -1.775,-1.775 -1.775,1.775 1.775,1.775 1.775,-1.775 -1.775,-1.775
  lines w0.1: -0.5,0 0.5,0 ; 0,-0.5 0,0.5
3D body: height 0.02, standoff 0, extent -1.525,-1.525 1.525,1.525